# EAGLE library part BUCK_REGULATOR_SIC413 (library timelapse-prototype-parts)
VISHAY SILICONIX - SIC413CB-T1-E3 - BUCK, SYNC, 4A, 26V, 8SO
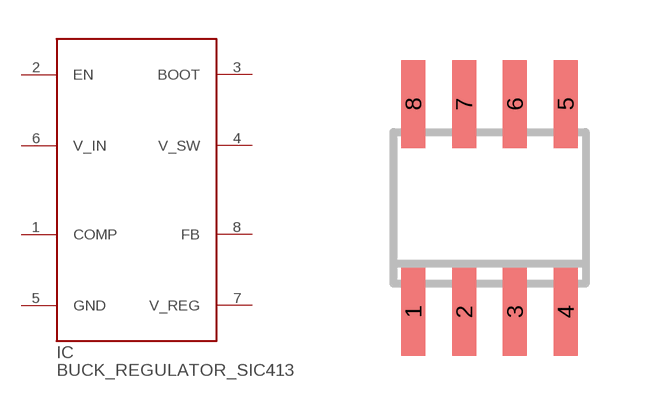
[diagram p11: symbol with the pads of SO8; footprint SO8]

Designator prefix IC

## BUCK_REGULATOR_SIC413 (DATASHEET: http://www.vishay.com/docs/69057/sic413.pdf; FARNELL: http://fi.farnell.com/jsp/search/productdetail.jsp?SKU=1890663)  [SO8]
1  COMP
2  EN
3  BOOT
4  V_SW
5  GND
6  V_IN
7  V_REG
8  FB

## Footprint SO8 (pad centres in mm)
8-Lead Small Outline IC (SO-8) Source: http://www.analog.com/UploadedFiles/Data_Sheets/703465986AD8611_2_0.pdf
smd 0.6 x 2.2: 1 -1.905,-2.6; 2 -0.635,-2.6; 3 0.635,-2.6; 4 1.905,-2.6; 5 1.905,2.6; 6 0.635,2.6; 7 -0.635,2.6; 8 -1.905,2.6